# Altium schematic symbol library inductor.SchLib: 32 symbols
Pins are listed as number, name and electrical type; pins without a type are passive.

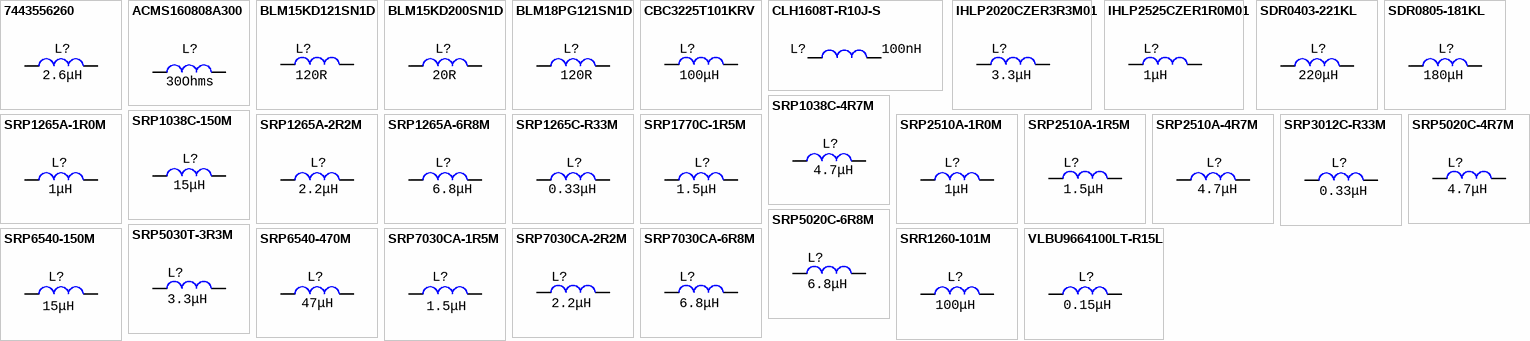
[diagram p0: symbols 7443556260 to VLBU9664100LT-R15L]

## 7443556260
designator L?  value 2.6μH  (hidden comment: 7443556260)
2.6 uH, 31.5A, ±20%, 1.58 mOhms, -40...+125°C; Manufacturer: Wurth; Manufacturer: Wurth Electronics; HelpURL: https://www.digikey.com/en/products/detail/würth-elektronik/7443556260/2175586; Package: 18.2x18.2x8.9 mm; PartNumber: 7443556260; Manufacturer Part Number: 7443556260; Component Type: Inductors
footprint IND: 7443556260 (Wurth)
pins: 1, 2

## ACMS160808A300
designator L?  value 30Ohms  (hidden comment: ACMS160808A300)
30 Ohms, Ferrite Bead, ±25%, 40 mOhms, 3A, 0603, -55...+125°C; Manufacturer: Max-Echo; HelpURL: https://www.farnell.com/datasheets/1833143.pdf; Package: 0603; PartNumber: ACMS160808A300; Component Type: Inductors
footprint IND: 0603
pins: 1, 2

## BLM15KD121SN1D
designator L?  value 120R  (hidden comment: BLM15KD121SN1D)
120R, Ferrite Bead, 1.5A, 70 mOhms, 0402, -55...+125°C; Manufacturer: Murata; Package: 0402; HelpURL: https://ru.mouser.com/ProductDetail/Murata/BLM15KD121SN1D?qs=glnLrWX4TPp0Z0TXztldQQ%3D%3D; PartNumber: BLM15KD121SN1D
footprint IND: 0402
pins: 1, 2

## BLM15KD200SN1D
designator L?  value 20R  (hidden comment: BLM15KD200SN1D)
20R, Ferrite Bead, 3.8A, 11 mOhms, 0402, -55...+125°C; Manufacturer: Murata; HelpURL: https://ru.mouser.com/ProductDetail/Murata/BLM15KD200SN1D?qs=sGAEpiMZZMug%252BNZZT2EIM041O%252B9bGYqIhjmsji1Rum0%3D; PartNumber: BLM15KD200SN1D; Package: 0402; Manufacturer Part Number: BLM15KD200SN1D; Component Type: Inductors
footprint IND: 0402
pins: 1, 2

## BLM18PG121SN1D
designator L?  value 120R  (hidden comment: BLM18PG121SN1D)
120R, Ferrite Bead, 2A, 50 mOhms, 0603, -55...+125°C; Manufacturer: Murata; HelpURL: https://eu.mouser.com/ProductDetail/Murata-Electronics/BLM18PG121SN1D?qs=tY8e8KZalarVxhnmnUYZ1A%3D%3D; PartNumber: BLM18PG121SN1D; Package: 0603
footprint IND: 0603
pins: 1, 2

## CBC3225T101KRV
designator L?  value 100μH  (hidden comment: CBC3225T101KRV)
100 uH, 0.22A, ±10%, 1.82 Ohms, case 3225, -40...+125°C; Manufacturer: Taiyo Yuden; HelpURL: https://eu.mouser.com/ProductDetail/Taiyo-Yuden/CBC3225T101KRV?qs=9r4v7xj2Lnl7DH4hxWFUbA%3D%3D; PartNumber: CBC3225T101KRV
footprint IND: 3225 (1210)
pins: 1, 2

## CLH1608T-R10J-S
designator L?  value 100nH  (hidden comment: CLH1608T-R10J-S)
100 nH ±5%, 1.2Ohms, 0.3A, 0603, -55...+125°C; Manufacturer: Chilisin; Package: 0603; PartNumber: CLH1608T-R10J-S; HelpURL: https://www.promelec.ru/fs/sources/f4/55/cf/cf/977afd41fb9968223ef60a0f.pdf; Manufacturer Part Number: CLH1608T-R10J-S; Component Type: Inductors
footprint IND: 0603
pins: 1, 2

## IHLP2020CZER3R3M01
designator L?  value 3.3μH  (hidden comment: IHLP2020CZER3R3M01)
3.3 uH, 5A, ±20%, 55 mOhms, -55...+125°C; Manufacturer: Vishay / Dale; Manufacturer: Vishay Dale; PartNumber: IHLP2020CZER3R3M01; Package: 5.5x5.2x3.0 mm; HelpURL: https://www.mouser.com/ProductDetail/Vishay-Dale/IHLP2020CZER3R3M01?qs=sGAEpiMZZMvo0doU39sz8%2FebkRlA7deqYNi3AbWghjw%3D; Manufacturer Part Number: IHLP2020CZER3R3M01; Component Type: Inductors
footprint IND: IHLP2020CZER3R3M01
pins: 1, 2

## IHLP2525CZER1R0M01
designator L?  value 1μH  (hidden comment: IHLP2525CZER1R0M01)
1 uH, 11A, ±20%, 10 mOhms, -55...+125°C; Manufacturer: Vishay / Dale; Manufacturer: Vishay Dale; HelpURL: https://www.mouser.com/ProductDetail/Vishay-Dale/IHLP2525CZER1R0M01?qs=sGAEpiMZZMsN2%252B3juumnQyi2YBja9QMuV38oEmlIhPY%3D; Package: 6.9x6.5x3.0 mm; PartNumber: IHLP2525CZER1R0M01; Manufacturer Part Number: IHLP2525CZER1R0M01; Component Type: Inductors
footprint IND: IHLP2525CZ
pins: 1, 2

## SDR0403-221KL
designator L?  value 220μH  (hidden comment: SDR0403-221KL)
220 uH, 0.22A, ±20%, 4.4 Ohms, -40...+125°C; Manufacturer: Bourns; HelpURL: https://eu.mouser.com/ProductDetail/Bourns/SDR0403-221KL?qs=meVWcSOgEr5ENW1e885LJg%3D%3D; PartNumber: SDR0403-221KL
footprint IND: SDR0403
pins: 1, 2

## SDR0805-181KL
designator L?  value 180μH  (hidden comment: SDR0805-181KL)
180 uH, 0.51A, ±10%, 770 mOhms, -40...+125°C; Manufacturer: Bourns; HelpURL: https://ru.mouser.com/ProductDetail/Bourns/SDR0805-181KL?qs=%2Fha2pyFadui3byHu9JwkuTpclRco6yr7nk%252BFSkkKpX7HkilsZHlOOg%3D%3D; Package: SDR0805 series; PartNumber: SDR0805-181KL; Manufacturer Part Number: SDR0805-181KL; Component Type: Inductors
footprint IND: SDR0805
pins: 1, 2

## SRP1038C-4R7M
designator L?  value 4.7μH  (hidden comment: SRP1038C-4R7M)
4.7 uH, 13A, ±20%, 15.5 mOhms, -40...+125°C; Manufacturer: Bourns; HelpURL: https://eu.mouser.com/ProductDetail/Bourns/SRP1038C-4R7M?qs=PzGy0jfpSMtn5TirWPq42g%3D%3D; Package: 10x10x3.8 mm; PartNumber: SRP1038C-4R7M
footprint IND: SRP1038C
pins: 1, 2

## SRP1038C-150M
designator L?  value 15μH  (hidden comment: SRP1038C-150M)
15 uH, 6.3A, ±20%, 45 mOhms, -40...+125°C; Manufacturer: Bourns; HelpURL: https://eu.mouser.com/ProductDetail/Bourns/SRP1038C-150M?qs=PzGy0jfpSMufkkRntzVjsQ%3D%3D; Package: 10x10x3.8 mm; PartNumber: SRP1038C-150M
footprint IND: SRP1038C
pins: 1, 2

## SRP1265A-1R0M
designator L?  value 1μH  (hidden comment: SRP1265A-1R0M)
1 uH, 48A, ±20%, 2.3 mOhms, -40...+125°C; Manufacturer: Bourns; HelpURL: https://ru.mouser.com/ProductDetail/Bourns/SRP1265A-1R0M?qs=%2Fha2pyFadui6MPT%252BSdrJOwoa%252Bo6JasHxwtt0j7g6HEpWCLslSFDn1Q%3D%3D; Package: 13.5x12.5x6.2 mm; PartNumber: SRP1265A-1R0M
footprint IND: SRP1265A
pins: 1, 2

## SRP1265A-2R2M
designator L?  value 2.2μH  (hidden comment: SRP1265A-2R2M)
2.2 uH, 37A, ±20%, 4.2 mOhms, -40...+125°C; Manufacturer: Bourns; HelpURL: https://ru.mouser.com/ProductDetail/Bourns/SRP1265A-2R2M?qs=7z%252BmIopC6%2FIteCjoeONbwg%3D%3D; PartNumber: SRP1265A-2R2M; Package: 13.5x12.5x6.2 mm; Manufacturer Part Number: SRP1265A-2R2M; Component Type: Inductors
footprint IND: SRP1265A
pins: 1, 2

## SRP1265A-6R8M
designator L?  value 6.8μH  (hidden comment: SRP1265A-6R8M)
6.8 uH, 18A, ±20%, 11.5 mOhms, -40...+125°C; Manufacturer: Bourns; HelpURL: https://nl.mouser.com/ProductDetail/Bourns/SRP1265A-6R8M?qs=7z%252BmIopC6%2FImzUD5p7zL4g%3D%3D; Package: 13.5x12.5x6.2 mm; PartNumber: SRP1265A-6R8M
footprint IND: SRP1265A
pins: 1, 2

## SRP1265C-R33M
designator L?  value 0.33μH  (hidden comment: SRP1265C-R33M)
0.33 uH, 70A, ±20%, 0.8 mOhms, -40...+125°C; Manufacturer: Bourns; HelpURL: https://nl.mouser.com/ProductDetail/Bourns/SRP1265C-R33M?qs=OlC7AqGiEDmagyTFZbsxUA%3D%3D; PartNumber: SRP1265C-R33M
footprint IND: SRP1265A
pins: 1, 2

## SRP1770C-1R5M
designator L?  value 1.5μH  (hidden comment: SRP1770C-1R5M)
1.5 uH, 55A, ±20%, 2.1 mOhms, -40...+125°C; Manufacturer: Bourns; HelpURL: https://nl.mouser.com/ProductDetail/Bourns/SRP1770C-1R5M?qs=PzGy0jfpSMsQlJhT1bmLTg%3D%3D; PartNumber: SRP1770C-1R5M
footprint IND: SRP1770C
pins: 1, 2

## SRP2510A-1R0M
designator L?  value 1μH  (hidden comment: SRP2510A-1R0M)
1 uH, 3A, ±20%, 54 mOhms, -40...+125°C; Manufacturer: Bourns; HelpURL: https://ru.mouser.com/ProductDetail/Bourns/SRP2510A-4R7M?qs=gt1LBUVyoHkwG4d3Qgj5xg%3D%3D; PartNumber: SRP2510A-1R0M
footprint IND: SRP2510A
pins: 1, 2

## SRP2510A-1R5M
designator L?  value 1.5μH  (hidden comment: SRP2510A-1R5M)
1.5 uH, 2.5A, ±20%, 91 mOhms, -40...+125°C; Manufacturer: Bourns; HelpURL: https://www.digikey.com/en/products/detail/bourns-inc/SRP2510A-1R5M/7354824?s=N4IgTCBcDaIMoCUAKYCsBGADAQQLToVQFkQBdAXyA; PartNumber: SRP2510A-1R5M
footprint IND: SRP2510A
pins: 1, 2

## SRP2510A-4R7M
designator L?  value 4.7μH  (hidden comment: SRP2510A-4R7M)
4.7 uH, 1.36A, ±20%, 262 mOhms, -40...+125°C; Manufacturer: Bourns; HelpURL: https://eu.mouser.com/ProductDetail/Bourns/SRP2510A-4R7M?qs=gt1LBUVyoHkwG4d3Qgj5xg%3D%3D; PartNumber: SRP2510A-4R7M; Package: 2.5x2x1 mm; Manufacturer Part Number: SRP2510A-4R7M; Component Type: Inductors
footprint IND: SRP2510A
pins: 1, 2

## SRP3012C-R33M
designator L?  value 0.33μH  (hidden comment: SRP3012C-R33M)
0.33 uH, 7A, ±20%, 20 mOhms, -40...+125°C; Manufacturer: Bourns; PartNumber: SRP3012C-R33M; HelpURL: https://ru.mouser.com/ProductDetail/Bourns/SRP3012C-R33M?qs=%2Fha2pyFaduhL5KfxJAFpAWpWKoVnri10k1UxUD3uRciB2LmUTAuADQ%3D%3D; Package: 3.5x3.2x1.2 mm; Manufacturer Part Number: SRP3012C-R33M; Component Type: Inductors
footprint IND: SRP3012C
pins: 1, 2

## SRP5020C-4R7M
designator L?  value 4.7μH  (hidden comment: SRP5020C-4R7M)
4.7 uH, 3.2A, ±20%, 109 mOhms, -40...+125°C; Manufacturer: Bourns; PartNumber: SRP5020C-4R7M; Package: 5.7x5.2x1.8 mm; HelpURL: https://eu.mouser.com/ProductDetail/Bourns/SRP5020C-4R7M?qs=OlC7AqGiEDmlFxlRp7Y0Dw%3D%3D
footprint IND: SRP5020
pins: 1, 2

## SRP5020C-6R8M
designator L?  value 6.8μH  (hidden comment: SRP5020C-6R8M)
6.8 uH, 2.8A, ±20%, 150 mOhms, -40...+125°C; Manufacturer: Bourns; PartNumber: SRP5020C-6R8M; Package: 5.7x5.2x1.8 mm; HelpURL: https://eu.mouser.com/ProductDetail/Bourns/SRP5020C-6R8M?qs=OlC7AqGiEDnqAtoDWVwZlQ%3D%3D
footprint IND: SRP5020
pins: 1, 2

## SRP5030T-3R3M
designator L?  value 3.3μH  (hidden comment: SRP5030T-3R3M)
3.3 uH, 5A, ±20%, 38 mOhms, -40...+125°C; Manufacturer: Bourns; PartNumber: SRP5030T-3R3M; Package: 5.7x5.2x2.8 mm; HelpURL: https://ru.mouser.com/ProductDetail/Bourns/SRP5030T-3R3M?qs=Zq5ylnUbLm6vMCX7ohAPew%3D%3D; Manufacturer Part Number: SRP5030T-3R3M; Component Type: Inductors
footprint IND: SRP5030T
pins: 1, 2

## SRP6540-150M
designator L?  value 15μH  (hidden comment: SRP6540-150M)
15 uH, 2.9A, ±20%, 121 mOhms, -40...+125°C; Manufacturer: Bourns; HelpURL: https://eu.mouser.com/ProductDetail/Bourns/SRP6540-150M?qs=VAD5mMsctQDbgHdK1oVsxg%3D%3D; Package: 7.2x6.5x4 mm; PartNumber: SRP6540-150M
footprint IND: SRP6540
pins: 1, 2

## SRP6540-470M
designator L?  value 47μH  (hidden comment: SRP6540-470M)
47 uH, 1.6A, ±20%, 366 mOhms, -55...+125°C; Manufacturer: Bourns; HelpURL: https://ru.mouser.com/ProductDetail/Bourns/SRP6540-470M?qs=%2Fha2pyFaduiP8jbHQXH33p%252BplItuLEKPCDIET2WR5%2FOzbmM4Bue9dg%3D%3D; Package: 7.2x6.5x4 mm; PartNumber: SRP6540-470M; Manufacturer Part Number: SRP6540-470M; Component Type: Inductors
footprint IND: SRP6540
pins: 1, 2

## SRP7030CA-1R5M
designator L?  value 1.5μH  (hidden comment: SRP7030CA-1R5M)
1.5 uH, 15.3A, ±20%, 8.25 mOhms, -40...+125°C; Manufacturer: Bourns; HelpURL: https://ru.mouser.com/ProductDetail/Bourns/SRP7030CA-1R5M?qs=PzGy0jfpSMvW1K93OZEADw%3D%3D; Package: 7.8x7.6x2.9 mm; PartNumber: SRP7030CA-1R5M; Manufacturer Part Number: SRP7030CA-1R5M; Component Type: Inductors
footprint IND: SRP7030CA
pins: 1, 2

## SRP7030CA-2R2M
designator L?  value 2.2μH  (hidden comment: SRP7030CA-2R2M)
2.2 uH, 13A, ±20%, 8.25 mOhms, -40...+125°C; Manufacturer: Bourns; HelpURL: https://ru.mouser.com/ProductDetail/Bourns/SRP7030CA-2R2M?qs=%2Fha2pyFadujuGI5q8GpKZT9dYb3hMBltKSHwUZrSzmn%2FfwWg2JdU4Q%3D%3D; PartNumber: SRP7030CA-2R2M; Package: 7.8x7.6x2.9 mm; Manufacturer Part Number: SRP7030CA-2R2M; Component Type: Inductors
footprint IND: SRP7030CA
pins: 1, 2

## SRP7030CA-6R8M
designator L?  value 6.8μH  (hidden comment: SRP7030CA-6R8M)
6.8 uH, 6.8A, ±20%, 42.5 mOhms, -40...+125°C; Manufacturer: Bourns; Package: 7.8x7.6x2.9 mm; PartNumber: SRP7030CA-6R8M; HelpURL: https://ru.mouser.com/ProductDetail/Bourns/SRP7030CA-6R8M?qs=%2Fha2pyFadujuGI5q8GpKZT9dYb3hMBltBUUEG9lQL68kHlNnvavg0w%3D%3D; Manufacturer Part Number: SRP7030CA-6R8M; Component Type: Inductors
footprint IND: SRP7030CA
pins: 1, 2

## SRR1260-101M
designator L?  value 100μH  (hidden comment: SRR1260-101M)
100 uH, 1.7A, ±10%, 180 mOhms, -40...+125°C; Manufacturer: Bourns; Manufacturer Part Number: SRR1260-150M; HelpURL: https://eu.mouser.com/ProductDetail/Bourns/SRR1260-101M?qs=uD%2FoUDWqfvQozr%2Ff4%252BPuSQ%3D%3D; PartNumber: SRR1260-101M; Package: SRR1260 series; Component Type: Inductors
footprint IND: SRR1260
pins: 1, 2

## VLBU9664100LT-R15L
designator L?  value 0.15μH  (hidden comment: VLBU9664100LT-R15L)
0.15 uH, 76A, ±15%, 0.125 mOhms, -40...+125°C; Manufacturer: TDK; Manufacturer Part Number: VLBU9664100LT-R10L; PartNumber: VLBU9664100LT-R15L; Package: 9.6x6.4x10 mm; Component Type: Inductors
footprint IND: VLBU9664100LT
pins: 1, 2